# Altium schematic symbol library fc_components_sch_lib.SchLib: 40 symbols (part 1 of 2)
Pins are listed as number, name and electrical type; pins without a type are passive.

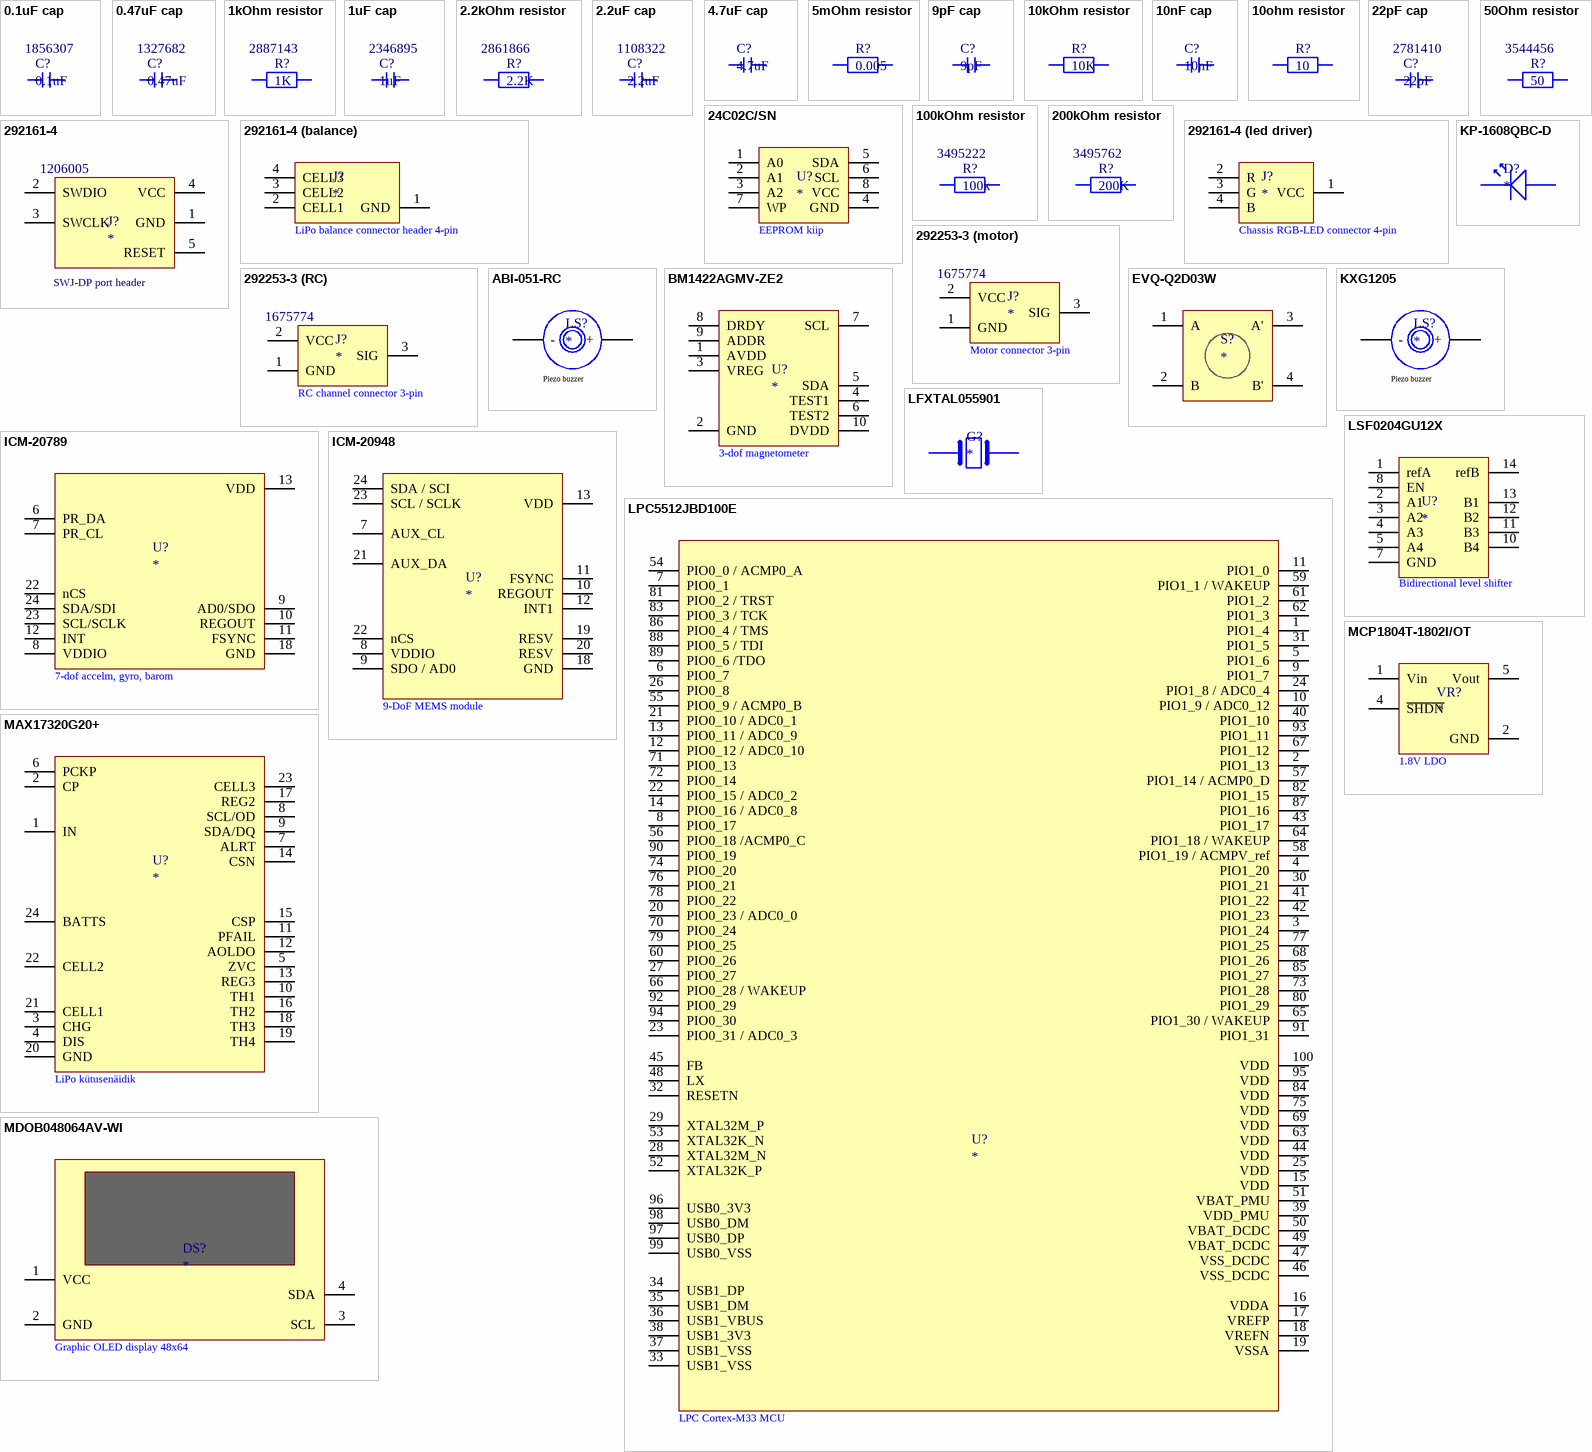
[diagram p0: symbols 0.1uF cap to MDOB048064AV-WI]

## 0.1uF cap
designator C?, comment 0.1uF  Supplier Part Number 1: 1856307
Cap, 0.1ΜF, 10V, 10%, X7R, 0603, Reel; Manufacturer: Multicomp; Manufacturer Part Number: MC0603B104K100CT; Capacitance: 100nF; Case Code (Metric): 1608; Case Code (Imperial): 0603; Min Operating Temperature: -55°C; Max Operating Temperature: 125°C; Voltage Rating: 10V; Dielectric: X7R; Packaging: Cut Tape; Tolerance: 10%; Voltage Rating (DC): 10V; REACH SVHC: No SVHC; ComponentLink1URL: http://www.farnell.com/datasheets/2117900.pdf?src-supplier=Element14; ComponentLink1Description: http://www.farnell.com/datasheets/2117900.pdf?src-supplier=Element14; ComponentLink2URL: http://www.farnell.com/datasheets/2117933.pdf?src-supplier=Farnell; ComponentLink2Description: http://www.farnell.com/datasheets/2117933.pdf?src-supplier=Farnell; ComponentLink3URL: http://www.farnell.com/datasheets/2117933.pdf?src-supplier=Element14; ComponentLink3Description: http://www.farnell.com/datasheets/2117933.pdf?src-supplier=Element14; Supplier 1: Farnell
footprint 0603 - cap (Chip Capacitor, 2-Leads, Body 1,55x0,85mm, IPC Medium Density)
pins: 1 0, 2 1

## 0.47uF cap
designator C?, comment 0.47uF  Supplier Part Number 1: 1327682
0201 0.47 uF 6.3 V ±10% Tolerance X5R Multilayer Ceramic Capacitor; Manufacturer: Murata; Manufacturer Part Number: GRM033R60J474KE90D; Capacitance: 470nF; Voltage Rating: 6.3V; Mount: Surface Mount; Case/Package: 0201; Case Code (Metric): 0603; Case Code (Imperial): 0201; Weight: 1.2E-05oz; Min Operating Temperature: -55°C; Max Operating Temperature: 85°C; Tolerance: 10%; Packaging: Tape and Reel; Dielectric: X5R; Termination: SMD/SMT; Voltage Rating (DC): 6.3V; Package Quantity: 15000; Length: 0.6mm; Width: 0.012inch; Height: 0.3mm; Thickness: 0.013inch; Depth: 0.3mm; Lead Free: Lead Free; RoHS Compliant: Yes; ComponentLink1URL: http://www.farnell.com/datasheets/2867834.pdf?src-supplier=Farnell; ComponentLink1Description: http://www.farnell.com/datasheets/2867834.pdf?src-supplier=Farnell; ComponentLink2URL: http://www.farnell.com/datasheets/2867834.pdf?src-supplier=Element14; ComponentLink2Description: http://www.farnell.com/datasheets/2867834.pdf?src-supplier=Element14; ComponentLink3URL: http://search.murata.co.jp/Ceramy/image/img/A01X/G101/ENG/GRM033R60J474KE90-01.pdf?src-supplier=Digi-Key; ComponentLink3Description: http://search.murata.co.jp/Ceramy/image/img/A01X/G101/ENG/GRM033R60J474KE90-01.pdf?src-supplier=Digi-Key; ComponentLink4URL: http://www.mouser.com/ds/2/281/c02e-2905.pdf?src-supplier=Mouser; ComponentLink4Description: http://www.mouser.com/ds/2/281/c02e-2905.pdf?src-supplier=Mouser; ComponentLink5URL: http://www.farnell.com/datasheets/2867834.pdf?src-supplier=Newark; ComponentLink5Description: http://www.farnell.com/datasheets/2867834.pdf?src-supplier=Newark; ComponentLink6URL: http://components.arrow.com/part/dataview/0323_07280126?src-supplier=Arrow+Europe; ComponentLink6Description: http://components.arrow.com/part/dataview/0323_07280126?src-supplier=Arrow+Europe; Supplier 1: Farnell
footprint 0603 - cap (Chip Capacitor, 2-Leads, Body 1,55x0,85mm, IPC Medium Density)
pins: 1 0, 2 1

## 1kOhm resistor
designator R?, comment 1K  Supplier Part Number 1: 2887143
ROHM - ESR03EZPF1001 - SMD Chip Resistor, Anti-Surge, 0603 [1608 Metric], 1 kohm, ESR Series, 150 V, Thick Film, 250 mW; Resistance: 1kR; Power Rating: 250mW; Tolerance: 1%; Temperature Coefficient: 100ppm/°C; Manufacturer: Rohm; Manufacturer Part Number: ESR03EZPF1001; Case/Package: 0603; Case Code (Metric): 1608; Case Code (Imperial): 0603; Size Code: 0603; Min Operating Temperature: -55°C; Max Operating Temperature: 155°C; Package Quantity: 1; Packaging: Tape and Reel; Resistor Type: Thick Film; Number of Terminations: 2; Max Power Dissipation: 250mW; Features: Automotive AEC-Q200; Series: ESR; Length: 0.063inch; Width: 0.031inch; Height: 0.022inch; Lead Free: Lead Free; RoHS Compliant: Yes; ComponentLink1URL: https://www.rohm.com/datasheet/ESR01MZPF/esr-e?src-supplier=Digi-Key; ComponentLink1Description: https://www.rohm.com/datasheet/ESR01MZPF/esr-e?src-supplier=Digi-Key; Supplier 1: Farnell
footprint 0603 - resistor (Chip Resistor, 2-Leads, Body 1,55x0,85mm, IPC Medium Density)
pins: 1, 2

## 1uF cap
designator C?, comment 1uF  Supplier Part Number 1: 2346895
Multilayer Ceramic Capacitors MLCC - SMD/SMT 0402 1.0uF 6.3volts *Derate Voltage/Temp; Manufacturer: Murata; Manufacturer Part Number: GRM155R70J105KA12D; Tolerance: 10%; Dielectric: X7R; Voltage Rating: 6.3V; Mount: Surface Mount; Case/Package: 0402; Case Code (Metric): 1005; Material: Ceramic; Case Code (Imperial): 0402; Weight: 0.000212oz; Min Operating Temperature: -55°C; Max Operating Temperature: 125°C; Capacitance: 1uF; Packaging: Tape and Reel; Termination: SMD/SMT; Voltage Rating (DC): 6.3V; Package Quantity: 10000; Length: 1mm; Width: 0.5mm; Height: 0.5mm; Thickness: 0.022inch; Depth: 0.5mm; Lead Free: Lead Free; RoHS Compliant: Yes; ComponentLink1URL: http://www.farnell.com/datasheets/2189111.pdf?src-supplier=Newark; ComponentLink1Description: http://www.farnell.com/datasheets/2189111.pdf?src-supplier=Newark; ComponentLink2URL: http://www.farnell.com/datasheets/2189111.pdf?src-supplier=Farnell; ComponentLink2Description: http://www.farnell.com/datasheets/2189111.pdf?src-supplier=Farnell; ComponentLink3URL: https://search.murata.co.jp/Ceramy/image/img/A01X/G101/ENG/GRM155R70J105KA12-01.pdf?src-supplier=Digi-Key; ComponentLink3Description: https://search.murata.co.jp/Ceramy/image/img/A01X/G101/ENG/GRM155R70J105KA12-01.pdf?src-supplier=Digi-Key; ComponentLink4URL: http://www.mouser.com/ds/2/281/c02e-2905.pdf?src-supplier=Mouser; ComponentLink4Description: http://www.mouser.com/ds/2/281/c02e-2905.pdf?src-supplier=Mouser; ComponentLink5URL: http://psearch.en.murata.com/capacitor/product/GRM155R70J105KA12%23.pdf?src-supplier=Avnet; ComponentLink5Description: http://psearch.en.murata.com/capacitor/product/GRM155R70J105KA12%23.pdf?src-supplier=Avnet; ComponentLink6URL: http://components.arrow.com/part/dataview/0323_06434986?src-supplier=Arrow+Europe; ComponentLink6Description: http://components.arrow.com/part/dataview/0323_06434986?src-supplier=Arrow+Europe; Supplier 1: Farnell
footprint 0603 - cap (Chip Capacitor, 2-Leads, Body 1,55x0,85mm, IPC Medium Density)
pins: 1 0, 2 1

## 2.2kOhm resistor
designator R?, comment 2.2K  Supplier Part Number 1: 2861866
TE CONNECTIVITY - CRGCQ0603J2K2 - SMD Chip Resistor, 0603 [1608 Metric], 2.2 kohm, CRGCQ Series, 75 V, Thick Film, 100 mW - SMD Chip Resistor, 0603 [1608 Metric], 2.2 kohm, CRGCQ Series, 75 V, Thick Film, 100 mW; Manufacturer: TE Connectivity; Manufacturer Part Number: CRGCQ0603J2K2; RoHS Compliant: Yes; ComponentLink1URL: https://4donline.ihs.com/images/VipMasterIC/IC/TYEL/TYEL-S-A0004929575/TYEL-S-A0004929575-1.pdf?hkey=52A5661711E402568146F3353EA87419&src-supplier=Element14; ComponentLink1Description: https://4donline.ihs.com/images/VipMasterIC/IC/TYEL/TYEL-S-A0004929575/TYEL-S-A0004929575-1.pdf?hkey=52A5661711E402568146F3353EA87419&src-supplier=Element14; ComponentLink2URL: https://4donline.ihs.com/images/VipMasterIC/IC/TYEL/TYEL-S-A0004929575/TYEL-S-A0004929575-1.pdf?hkey=52A5661711E402568146F3353EA87419&src-supplier=Newark; ComponentLink2Description: https://4donline.ihs.com/images/VipMasterIC/IC/TYEL/TYEL-S-A0004929575/TYEL-S-A0004929575-1.pdf?hkey=52A5661711E402568146F3353EA87419&src-supplier=Newark; ComponentLink3URL: https://www.te.com/commerce/DocumentDelivery/DDEController?Action=srchrtrv&amp;DocNm=1773204-3&amp;DocType=DS&amp;DocLang=English&src-supplier=Digi-Key; ComponentLink3Description: https://www.te.com/commerce/DocumentDelivery/DDEController?Action=srchrtrv&amp;DocNm=1773204-3&amp;DocType=DS&amp;DocLang=English&src-supplier=Digi-Key; Supplier 1: Farnell
footprint 0603 - resistor (Chip Resistor, 2-Leads, Body 1,55x0,85mm, IPC Medium Density)
pins: 1, 2

## 2.2uF cap
designator C?, comment 2.2uF  Supplier Part Number 1: 1108322
0402 2.2 uF 25 V ±10 % Tolerance X5R SMT Multilayer Ceramic Capacitor; Manufacturer: Murata; Manufacturer Part Number: GRT155R61E225KE13D; Voltage Rating: 25V; Tolerance: 10%; Mount: Surface Mount; Case/Package: 0402; Case Code (Metric): 1005; Case Code (Imperial): 0402; Min Operating Temperature: -55°C; Max Operating Temperature: 85°C; Packaging: Cut Tape; Capacitance: 2.2uF; Dielectric: X5R; Voltage Rating (DC): 25V; Length: 0.039inch; Width: 0.02inch; Thickness: 0.022inch; Ratings: AEC-Q200; RoHS Compliant: Yes; ComponentLink1URL: http://www.farnell.com/datasheets/2165919.pdf?src-supplier=Newark; ComponentLink1Description: http://www.farnell.com/datasheets/2165919.pdf?src-supplier=Newark; ComponentLink2URL: http://www.farnell.com/datasheets/2165919.pdf?src-supplier=Farnell; ComponentLink2Description: http://www.farnell.com/datasheets/2165919.pdf?src-supplier=Farnell; ComponentLink3URL: http://www.farnell.com/datasheets/2165919.pdf?src-supplier=Element14; ComponentLink3Description: http://www.farnell.com/datasheets/2165919.pdf?src-supplier=Element14; ComponentLink4URL: https://search.murata.co.jp/Ceramy/image/img/A01X/partnumbering_e_02.pdf?src-supplier=Digi-Key; ComponentLink4Description: https://search.murata.co.jp/Ceramy/image/img/A01X/partnumbering_e_02.pdf?src-supplier=Digi-Key; Supplier 1: Farnell
footprint 0603 - cap (Chip Capacitor, 2-Leads, Body 1,55x0,85mm, IPC Medium Density)
pins: 1 0, 2 1

## 4.7uF cap
designator C?, comment 4.7uF
0805 4.7 uF 50 V ±10% Tolerance X5R SMT Multilayer Ceramic Chip Capacitor; Manufacturer: Murata; Manufacturer Part Number: GRT21BR61H475KE13L; Voltage Rating: 50V; Supplier 1: Farnell; Stock 1: 51693; Mount: Surface Mount; Case/Package: 0805; Case Code (Metric): 2012; Case Code (Imperial): 0805; Min Operating Temperature: -55°C; Max Operating Temperature: 85°C; Packaging: Tape and Reel; Capacitance: 4.7uF; Tolerance: 10%; Dielectric: X5R; Voltage Rating (DC): 50V; Length: 0.079inch; Width: 0.049inch; Thickness: 0.057inch; Ratings: AEC-Q200; RoHS Compliant: Yes; ComponentLink1URL: http://www.farnell.com/datasheets/2165993.pdf?src-supplier=Farnell; ComponentLink1Description: http://www.farnell.com/datasheets/2165993.pdf?src-supplier=Farnell; ComponentLink2URL: http://www.farnell.com/datasheets/2165993.pdf?src-supplier=Element14; ComponentLink2Description: http://www.farnell.com/datasheets/2165993.pdf?src-supplier=Element14; ComponentLink3URL: http://search.murata.co.jp/Ceramy/image/img/A01X/G101/ENG/GRT21BR61H475KE13-01.pdf?src-supplier=Digi-Key; ComponentLink3Description: http://search.murata.co.jp/Ceramy/image/img/A01X/G101/ENG/GRT21BR61H475KE13-01.pdf?src-supplier=Digi-Key; Supplier Part Number 1: 2672194; Pricing 1: 5=0.38, 50=0.194, 250=0.174, 500=0.154, 1500=0.128, 3000=0.1, 15000=0.098 (EUR)
footprint 0805 - cap (Chip Capacitor, 2-Leads, Body 2,00x1,20mm, IPC Medium Density)
pins: 1 0, 2 1

## 5mOhm resistor
designator R?, comment 0.005
Res Thick Film 0603 0.005 Ohm 1% 0.25W(1/4W) 0ppm/C to 700ppm/C Pad SMD Automotive T/R; Manufacturer: Panasonic; Manufacturer Part Number: ERJ-3LWFR005V; Resistance: 5mR; Temperature Coefficient: 700ppm/°C; Max Power Dissipation: 250mW; Supplier 1: Farnell; Stock 1: 3850; Pricing 1: 150=0.121, 500=0.0804, 1000=0.0759, 2500=0.0666, 5000=0.0643, 25000=0.0618 (EUR); Case/Package: 0603; Case Code (Metric): 1608; Case Code (Imperial): 0603; Min Operating Temperature: -55°C; Max Operating Temperature: 125°C; Packaging: Tape and Reel; Resistor Type: Thick Film; Number of Terminations: 2; Tolerance: 1%; Features: Automotive AEC-Q200; Length: 0.063inch; Width: 0.031inch; Height: 0.026inch; RoHS Compliant: Yes; ComponentLink1URL: http://www.farnell.com/datasheets/2631545.pdf?src-supplier=Farnell; ComponentLink1Description: http://www.farnell.com/datasheets/2631545.pdf?src-supplier=Farnell; ComponentLink2URL: http://www.farnell.com/datasheets/2631545.pdf?src-supplier=Newark; ComponentLink2Description: http://www.farnell.com/datasheets/2631545.pdf?src-supplier=Newark; ComponentLink3URL: http://www.mouser.com/ds/2/315/AOA0000C295-1109214.pdf?src-supplier=Mouser; ComponentLink3Description: http://www.mouser.com/ds/2/315/AOA0000C295-1109214.pdf?src-supplier=Mouser; ComponentLink4URL: https://industrial.panasonic.com/cdbs/www-data/pdf/RDN0000/AOA0000C313.pdf?src-supplier=Digi-Key; ComponentLink4Description: https://industrial.panasonic.com/cdbs/www-data/pdf/RDN0000/AOA0000C313.pdf?src-supplier=Digi-Key; Supplier Part Number 1: 2797524RL
footprint 0603 - resistor (Chip Resistor, 2-Leads, Body 1,55x0,85mm, IPC Medium Density)
pins: 1, 2

## 9pF cap
designator C?, comment 9pF
Cap Ceramic 9pF 50V C0G ±0.5pF SMD 0603 125°C T/R; Manufacturer: Multicomp; Manufacturer Part Number: MC0603N9R0D500CT; Supplier 1: Farnell; Stock 1: 0; Pricing 1: 4000=0.0108 (EUR); Case/Package: 0603; Case Code (Metric): 1608; Case Code (Imperial): 0603; Min Operating Temperature: -55°C; Max Operating Temperature: 125°C; Capacitance: 9pF; Voltage Rating: 50V; Packaging: Cut Tape; Dielectric: C0G; Voltage Rating (DC): 50V; REACH SVHC: Unknown; RoHS Compliant: Yes; ComponentLink1URL: http://www.farnell.com/datasheets/1901289.pdf?src-supplier=Element14; ComponentLink1Description: http://www.farnell.com/datasheets/1901289.pdf?src-supplier=Element14; Supplier Part Number 1: 2665944
footprint 0603 - cap (Chip Capacitor, 2-Leads, Body 1,55x0,85mm, IPC Medium Density)
pins: 0, 1

## 10kOhm resistor
designator R?, comment 10K
Res General Purpose Thick Film 0603 10k Ohm 5% 1/10W ±100ppm/°C Molded T/R; Manufacturer: Multicomp; Manufacturer Part Number: MCWR06X103 JTL; Supplier 1: Farnell; Stock 1: 0; Pricing 1: 5000=0.0018 (EUR); ComponentLink1URL: http://www.farnell.com/datasheets/2189593.pdf?src-supplier=Farnell; ComponentLink1Description: http://www.farnell.com/datasheets/2189593.pdf?src-supplier=Farnell; Supplier Part Number 1: 2689413
footprint 0603 - resistor (Chip Resistor, 2-Leads, Body 1,55x0,85mm, IPC Medium Density)
pins: 1, 2

## 10nF cap
designator C?, comment 10nF
Cap Ceramic 10000pF 50V X7R ±5% SMD 0402 125°C T/R; Manufacturer: Multicomp; Manufacturer Part Number: MC0402B103J500CT; Supplier 1: Farnell; Stock 1: 11966; Pricing 1: 150=0.0353, 500=0.0235, 2500=0.0141 (EUR); Case Code (Metric): 1005; Case Code (Imperial): 0402; Min Operating Temperature: -55°C; Max Operating Temperature: 125°C; Capacitance: 10nF; Voltage Rating: 50V; Dielectric: X7R; Packaging: Cut Tape; Tolerance: 5%; Voltage Rating (DC): 50V; REACH SVHC: No SVHC; ComponentLink1URL: http://www.farnell.com/datasheets/2117900.pdf?src-supplier=Element14; ComponentLink1Description: http://www.farnell.com/datasheets/2117900.pdf?src-supplier=Element14; ComponentLink2URL: http://www.farnell.com/datasheets/2117933.pdf?src-supplier=Element14; ComponentLink2Description: http://www.farnell.com/datasheets/2117933.pdf?src-supplier=Element14; Supplier Part Number 1: 2627338RL
footprint 0402 - cap (Chip Capacitor, 2-Leads, Body 1,00x0,50mm, IPC Medium Density)
pins: 1 0, 2 1

## 10ohm resistor
designator R?, comment 10
Res High Power Thick Film 0603 10 Ohm 1% 1/8W ±100ppm/°C Ceramic Paper T/R; Manufacturer: Multicomp; Manufacturer Part Number: MCWF06P10R0FTL; Supplier 1: Farnell; Stock 1: 0; Pricing 1: 5000=0.0039, 25000=0.003, 50000=0.0026 (EUR); ComponentLink1URL: http://www.farnell.com/datasheets/2189453.pdf?src-supplier=Farnell; ComponentLink1Description: http://www.farnell.com/datasheets/2189453.pdf?src-supplier=Farnell; Supplier Part Number 1: 2688761
footprint 0603 - resistor (Chip Resistor, 2-Leads, Body 1,55x0,85mm, IPC Medium Density)
pins: 1, 2

## 22pF cap
designator C?, comment 22pF  Supplier Part Number 1: 2781410
0402 22 pF 50 V ±5 % Tolerance C0G SMT Multilayer Ceramic Capacitor; Manufacturer: Murata; Manufacturer Part Number: GCM1555C1H220JA16D; Tolerance: 5%; Voltage Rating: 50V; Mount: Surface Mount; Case/Package: 0402; Case Code (Metric): 1005; Case Code (Imperial): 0402; Weight: 0.000212oz; Min Operating Temperature: -55°C; Max Operating Temperature: 125°C; Package Quantity: 1; Packaging: Tape and Reel; Capacitance: 22pF; Dielectric: C0G; Termination: SMD/SMT; Voltage Rating (DC): 50V; Length: 1mm; Width: 0.5mm; Height: 0.5mm; Thickness: 0.022inch; Depth: 0.5mm; Ratings: AEC-Q200; Lead Free: Lead Free; RoHS Compliant: Yes; ComponentLink1URL: http://www.farnell.com/datasheets/2189077.pdf?src-supplier=Farnell; ComponentLink1Description: http://www.farnell.com/datasheets/2189077.pdf?src-supplier=Farnell; ComponentLink2URL: http://www.farnell.com/datasheets/2189077.pdf?src-supplier=Element14; ComponentLink2Description: http://www.farnell.com/datasheets/2189077.pdf?src-supplier=Element14; ComponentLink3URL: http://search.murata.co.jp/Ceramy/image/img/A01X/partnumbering_e_02.pdf?src-supplier=Digi-Key; ComponentLink3Description: http://search.murata.co.jp/Ceramy/image/img/A01X/partnumbering_e_02.pdf?src-supplier=Digi-Key; ComponentLink4URL: http://www.mouser.com/ds/2/281/c03e-806517.pdf?src-supplier=Mouser; ComponentLink4Description: http://www.mouser.com/ds/2/281/c03e-806517.pdf?src-supplier=Mouser; ComponentLink5URL: http://psearch.en.murata.com/capacitor/product/GCM1555C1H220JA16%23.pdf?src-supplier=Avnet; ComponentLink5Description: http://psearch.en.murata.com/capacitor/product/GCM1555C1H220JA16%23.pdf?src-supplier=Avnet; ComponentLink6URL: http://components.arrow.com/part/dataview/0323_07199610?src-supplier=Arrow+Europe; ComponentLink6Description: http://components.arrow.com/part/dataview/0323_07199610?src-supplier=Arrow+Europe; Supplier 1: Farnell
footprint 0603 - cap (Chip Capacitor, 2-Leads, Body 1,55x0,85mm, IPC Medium Density)
pins: 1 0, 2 1

## 24C02C/SN
designator U?
MICROCHIP - 24C02C/SN - SERIAL EEPROM, 2KBIT, 400KHZ, SOIC-8; Access Time: 900ns; Density: 2Kb; Interface: I2C,Serial,2-Wire; Operating Supply Voltage: 5V; Max Supply Voltage: 5.5V; Min Supply Voltage: 4.5V; Nominal Supply Current: 3mA; Organization: 256X8; Write Protection: YES; Write Cycle Time-Max (tWC): 1.5ms; Number of Words: 256; Supplier 1: Farnell; Manufacturer: Microchip; Manufacturer Part Number: 24C02C/SN; Stock 1: 1100; Pricing 1: 1=0.423, 25=0.415, 100=0.406 (EUR); Mount: Surface Mount; Case/Package: SOIC; Number of Pins: 8; Min Operating Temperature: 0°C; Max Operating Temperature: 70°C; Max Frequency: 400kHz; Frequency: 400kHz; Packaging: Rail/Tube; Package Quantity: 100; Memory Type: EEPROM; Memory Size: 2Kb; Access Time-Max: 900ns; Supply Current: 3mA; Programming Voltage: 5.5V; Supply Voltage-Nom: 5.5V; Length: 4.9mm; Width: 3.9mm; Height: 1.5mm; Radiation Hardening: No; Lead Free: Lead Free; RoHS Compliant: Yes; REACH SVHC: No SVHC; ComponentLink1URL: http://www.farnell.com/datasheets/1688094.pdf?src-supplier=Element14; ComponentLink1Description: http://www.farnell.com/datasheets/1688094.pdf?src-supplier=Element14; ComponentLink2URL: http://ww1.microchip.com/downloads/en/DeviceDoc/21202d.pdf?src-supplier=Mouser; ComponentLink2Description: http://ww1.microchip.com/downloads/en/DeviceDoc/21202d.pdf?src-supplier=Mouser; ComponentLink3URL: https://www.alliedelec.com/m/d/de95da595ed0857ba5ed453637810f1b.pdf?src-supplier=Allied+Electronics; ComponentLink3Description: https://www.alliedelec.com/m/d/de95da595ed0857ba5ed453637810f1b.pdf?src-supplier=Allied+Electronics; Supplier Part Number 1: 1607552
footprint (EEPROM)SOIC127P600X175-8N (SOIC, 8-Leads, Body 4,90x3,90mm, Pitch 1,27mm, IPC Medium Density)
pins: 1 A0, 2 A1, 3 A2, 4 GND, 5 SDA, 6 SCL, 7 WP, 8 VCC
text: EEPROM kiip

## 50Ohm resistor
designator R?, comment 50  Supplier Part Number 1: 3544456
Res, 50R, 1%, 0.063W, 0402 Rohs Compliant: Yes; Manufacturer: KOA Speer; Manufacturer Part Number: RN73R1ETTP50R0F50; ComponentLink1URL: https://datasheet.octopart.com/RN73R1ETTP50R0F50-KOA-Speer-datasheet-149653819.pdf?src-supplier=Farnell; ComponentLink1Description: https://datasheet.octopart.com/RN73R1ETTP50R0F50-KOA-Speer-datasheet-149653819.pdf?src-supplier=Farnell; Supplier 1: Farnell
footprint 0402 - resistor (Chip Resistor, 2-Leads, Body 1,00x0,50mm, IPC Medium Density)
pins: 1, 2

## 100kOhm resistor
designator R?, comment 100k  Supplier Part Number 1: 3495222
Res General Purpose Thick Film 0402 100k Ohm 1% 1/16W ±100ppm/°C Molded Paper T/R; Manufacturer: TE Connectivity; Manufacturer Part Number: CRGCQ0402F100K; Resistance: 100kR; Max Power Dissipation: 63mW; Case/Package: 0402; Case Code (Imperial): 0402; Case Code (Metric): 1005; Min Operating Temperature: -55°C; Max Operating Temperature: 155°C; Resistor Type: Thick Film; Features: Moisture Resistant,Automotive AEC-Q200; Packaging: Tape and Reel; Tolerance: 1%; Temperature Coefficient: 100ppm/°C; Number of Terminations: 2; RoHS Compliant: Yes; ComponentLink1URL: https://4donline.ihs.com/images/VipMasterIC/IC/TYEL/TYEL-S-A0004929575/TYEL-S-A0004929575-1.pdf?hkey=52A5661711E402568146F3353EA87419&src-supplier=Farnell; ComponentLink1Description: https://4donline.ihs.com/images/VipMasterIC/IC/TYEL/TYEL-S-A0004929575/TYEL-S-A0004929575-1.pdf?hkey=52A5661711E402568146F3353EA87419&src-supplier=Farnell; ComponentLink2URL: https://4donline.ihs.com/images/VipMasterIC/IC/TYEL/TYEL-S-A0004929575/TYEL-S-A0004929575-1.pdf?hkey=52A5661711E402568146F3353EA87419&src-supplier=Element14; ComponentLink2Description: https://4donline.ihs.com/images/VipMasterIC/IC/TYEL/TYEL-S-A0004929575/TYEL-S-A0004929575-1.pdf?hkey=52A5661711E402568146F3353EA87419&src-supplier=Element14; ComponentLink3URL: https://4donline.ihs.com/images/VipMasterIC/IC/TYEL/TYEL-S-A0004929575/TYEL-S-A0004929575-1.pdf?hkey=52A5661711E402568146F3353EA87419&src-supplier=Newark; ComponentLink3Description: https://4donline.ihs.com/images/VipMasterIC/IC/TYEL/TYEL-S-A0004929575/TYEL-S-A0004929575-1.pdf?hkey=52A5661711E402568146F3353EA87419&src-supplier=Newark; ComponentLink4URL: https://www.te.com/commerce/DocumentDelivery/DDEController?Action=srchrtrv&amp;DocNm=1773204-3&amp;DocType=DS&amp;DocLang=English&src-supplier=Digi-Key; ComponentLink4Description: https://www.te.com/commerce/DocumentDelivery/DDEController?Action=srchrtrv&amp;DocNm=1773204-3&amp;DocType=DS&amp;DocLang=English&src-supplier=Digi-Key; Supplier 1: Farnell
footprint 0603 - resistor (Chip Resistor, 2-Leads, Body 1,55x0,85mm, IPC Medium Density)
pins: 1, 2

## 200kOhm resistor
designator R?, comment 200K  Supplier Part Number 1: 3495762
Res Thin Film 0603 200K Ohm 0.1% 1/10W ±25ppm/°C Molded SMD SMD Punched Carrier T/R; Manufacturer: Panasonic; Manufacturer Part Number: ERA-3AEB204V; Voltage Rating (DC): 75V; Resistance: 200kR; Power Rating: 100mW; Mount: Surface Mount; Case/Package: 0603; Number of Pins: 2; Contact Plating: Tin; Case Code (Metric): 1608; Case Code (Imperial): 0603; Size Code: 0603; Min Operating Temperature: -55°C; Max Operating Temperature: 155°C; Package Quantity: 5000; Packaging: Tape and Reel; Series: ERA-3A; Tolerance: 0.1%; Voltage Rating: 75V; Resistor Type: Thin Film; Termination: SMD/SMT; Temperature Coefficient: 25ppm/°C; Max Power Dissipation: 100mW; Resistance Tolerance: 0.1%; Technology: THIN FILM; Number of Terminations: 2; Features: Automotive AEC-Q200; Construction: Rectangular; Length: 1.6mm; Width: 0.8mm; Height: 0.45mm; Depth: 0.8mm; Radiation Hardening: No; REACH SVHC: No SVHC; Lead Free: Lead Free; RoHS Compliant: Yes; Military Standard: Not; ComponentLink1URL: https://www.distrelec.biz/Web/Downloads/_t/ds/ERA_eng_tds.pdf?mime=application%2Fpdf&src-supplier=Distrelec; ComponentLink1Description: https://www.distrelec.biz/Web/Downloads/_t/ds/ERA_eng_tds.pdf?mime=application%2Fpdf&src-supplier=Distrelec; ComponentLink2URL: http://www.farnell.com/datasheets/485442.pdf?src-supplier=Element14; ComponentLink2Description: http://www.farnell.com/datasheets/485442.pdf?src-supplier=Element14; ComponentLink3URL: http://www.farnell.com/datasheets/2059650.pdf?src-supplier=Farnell; ComponentLink3Description: http://www.farnell.com/datasheets/2059650.pdf?src-supplier=Farnell; ComponentLink4URL: http://www.farnell.com/datasheets/485442.pdf?src-supplier=Farnell; ComponentLink4Description: http://www.farnell.com/datasheets/485442.pdf?src-supplier=Farnell; ComponentLink5URL: http://www.farnell.com/datasheets/39837.pdf?src-supplier=Element14; ComponentLink5Description: http://www.farnell.com/datasheets/39837.pdf?src-supplier=Element14; ComponentLink6URL: https://www.alliedelec.com/m/d/b6b0537e86f421aa7f5975bb1d8f429a.pdf?src-supplier=Allied+Electronics; ComponentLink6Description: https://www.alliedelec.com/m/d/b6b0537e86f421aa7f5975bb1d8f429a.pdf?src-supplier=Allied+Electronics; ComponentLink7URL: http://industrial.panasonic.com/www-data/pdf/AOA0000/AOA0000CE26.pdf?src-supplier=Avnet; ComponentLink7Description: http://industrial.panasonic.com/www-data/pdf/AOA0000/AOA0000CE26.pdf?src-supplier=Avnet; ComponentLink8URL: http://www.produktinfo.conrad.com/datenblaetter/450000-474999/451764-da-01-en-WIDERSTAND_0603_ERA.pdf?src-supplier=Conrad; ComponentLink8Description: http://www.produktinfo.conrad.com/datenblaetter/450000-474999/451764-da-01-en-WIDERSTAND_0603_ERA.pdf?src-supplier=Conrad; Supplier 1: Farnell
footprint 0603 - resistor (Chip Resistor, 2-Leads, Body 1,55x0,85mm, IPC Medium Density)
pins: 1, 2

## 292161-4
designator J?  Supplier Part Number 1: 1206005
CONN HEADER 4POS VERT 2MM T/H; Manufacturer: TE Connectivity; Manufacturer Part Number: 292161-4; Shape: Rectangular; Body Material: Nylon; Body Plating: Tin; Number of Positions: 4; Connector Type: Header,Pin; Mating Retention: No (Without); PCB Mount Retention: With; PCB Mounting Orientation: Vertical; Contact Resistance: 20mR; Max Voltage Rating (AC): 125V; Wire/Cable Type: Discrete; Connector System: Wire-to-Board; Contact Retention: Yes (With); Contact Current Rating: 4A; Contact Style: Straight; Gender: Male; Wire/Cable Gauge: 22AWG; Plating Thickness: 2um; Tail Length: 3.2mm; PCB Thickness: 0.8mm; Approvals: UL; Mount: Through Hole; Contact Plating: Tin; Contact Material: Brass; Housing Color: Natural; Housing Material: Nylon; Contact Shape: Round; Color: Natural; Material: Nylon; Min Operating Temperature: -40°C; Max Operating Temperature: 105°C; Number of Rows: 1; Packaging: Bag; Termination: Solder; Number of Contacts: 4; Package Quantity: 1000; Orientation: Straight; PCB Mount Alignment: No (Without); Sealable: No (Without); Series: AMP CT; Backwall/Post Interruptions: No (Without); Mating Alignment: No (Without); Strain Relief: No (Without); Voltage Rating: 125V; Contact Type: Male Pin; Current Rating: 4A; Contact Gender: Male; Voltage Rating (DC): 125V; Max Voltage Rating (DC): 125V; Voltage Rating (AC): 125V; Length: 9.8mm; Width: 3.6mm; Height: 0.267inch; Pitch: 2mm; Contact Mating Length: 0.177inch; Depth: 3.6mm; Lead Pitch: 2mm; Radiation Hardening: No; Flammability Rating: UL94 V-0; RoHS Compliant: Yes; ELV: Compliant; REACH SVHC: No SVHC; Lead Free: Lead Free; ComponentLink1URL: http://www.farnell.com/datasheets/1631402.pdf?src-supplier=Element14; ComponentLink1Description: http://www.farnell.com/datasheets/1631402.pdf?src-supplier=Element14; ComponentLink2URL: https://www.distrelec.biz/Web/Downloads/_t/ds/292161_x_eng_tds.pdf?mime=application%2Fpdf&src-supplier=Distrelec; ComponentLink2Description: https://www.distrelec.biz/Web/Downloads/_t/ds/292161_x_eng_tds.pdf?mime=application%2Fpdf&src-supplier=Distrelec; ComponentLink3URL: http://www.jameco.com/Jameco/Products/ProdDS/1931034.pdf?src-supplier=Jameco; ComponentLink3Description: http://www.jameco.com/Jameco/Products/ProdDS/1931034.pdf?src-supplier=Jameco; ComponentLink4URL: http://www.te.com/commerce/DocumentDelivery/DDEController?Action=showdoc&DocId=Data+Sheet%7F1-1773455-8_CT_CONNECTOR_SERIES_QRG%7F0909%7Fpdf%7FEnglish%7FENG_DS_1-1773455-8_CT_CONNECTOR_SERIES_QRG_0909.pdf&src-supplier=Avnet; ComponentLink4Description: http://www.te.com/commerce/DocumentDelivery/DDEController?Action=showdoc&DocId=Data+Sheet%7F1-1773455-8_CT_CONNECTOR_SERIES_QRG%7F0909%7Fpdf%7FEnglish%7FENG_DS_1-1773455-8_CT_CONNECTOR_SERIES_QRG_0909.pdf&src-supplier=Avnet; ComponentLink5URL: http://www.te.com/commerce/DocumentDelivery/DDEController?Action=showdoc&DocId=Customer+Drawing%7F292161%7FP%7Fpdf%7FEnglish%7FENG_CD_292161_P.pdf%7F292161-4&src-supplier=Future+Electronics; ComponentLink5Description: http://www.te.com/commerce/DocumentDelivery/DDEController?Action=showdoc&DocId=Customer+Drawing%7F292161%7FP%7Fpdf%7FEnglish%7FENG_CD_292161_P.pdf%7F292161-4&src-supplier=Future+Electronics; ComponentLink6URL: http://www.te.com/commerce/DocumentDelivery/DDEController?Action=showdoc&DocId=Data+Sheet%7F1-1773455-8_CT_CONNECTOR_SERIES_QRG%7F0909%7Fpdf%7FEnglish%7FENG_DS_1-1773455-8_CT_CONNECTOR_SERIES_QRG_0909.pdf&src-supplier=Avnet+Europe; ComponentLink6Description: http://www.te.com/commerce/DocumentDelivery/DDEController?Action=showdoc&DocId=Data+Sheet%7F1-1773455-8_CT_CONNECTOR_SERIES_QRG%7F0909%7Fpdf%7FEnglish%7FENG_DS_1-1773455-8_CT_CONNECTOR_SERIES_QRG_0909.pdf&src-supplier=Avnet+Europe; ComponentLink7URL: http://www.te.com/commerce/DocumentDelivery/DDEController?Action=srchrtrv&DocNm=292161&DocType=Customer+Drawing&DocLang=English&src-supplier=Digi-Key; ComponentLink7Description: http://www.te.com/commerce/DocumentDelivery/DDEController?Action=srchrtrv&DocNm=292161&DocType=Customer+Drawing&DocLang=English&src-supplier=Digi-Key; Supplier 1: Farnell
footprint 6-PIN CONNECTOR
pins: 1 GND, 2 SWDIO, 3 SWCLK, 4 VCC, 5 RESET
text: SWJ-DP port header

## 292161-4 (balance)
designator J?
CONN HEADER 4POS VERT 2MM T/H; Manufacturer: TE Connectivity; Manufacturer Part Number: 292161-4; Shape: Rectangular; Body Material: Nylon; Body Plating: Tin; Number of Positions: 4; Connector Type: Header,Pin; Mating Retention: No (Without); PCB Mount Retention: With; PCB Mounting Orientation: Vertical; Contact Resistance: 20mR; Max Voltage Rating (AC): 125V; Wire/Cable Type: Discrete; Connector System: Wire-to-Board; Contact Retention: Yes (With); Contact Current Rating: 4A; Contact Style: Straight; Gender: Male; Wire/Cable Gauge: 22AWG; Plating Thickness: 2um; Tail Length: 3.2mm; PCB Thickness: 0.8mm; Approvals: UL; Supplier 1: Farnell; Stock 1: 3420; Pricing 1: 10=0.346, 100=0.282, 500=0.256, 1000=0.211, 2500=0.192, 5000=0.185 (EUR); Mount: Through Hole; Contact Plating: Tin; Contact Material: Brass; Housing Color: Natural; Housing Material: Nylon; Contact Shape: Round; Color: Natural; Material: Nylon; Min Operating Temperature: -40°C; Max Operating Temperature: 105°C; Number of Rows: 1; Packaging: Bag; Termination: Solder; Number of Contacts: 4; Package Quantity: 1000; Orientation: Straight; PCB Mount Alignment: No (Without); Sealable: No (Without); Series: AMP CT; Backwall/Post Interruptions: No (Without); Mating Alignment: No (Without); Strain Relief: No (Without); Voltage Rating: 125V; Contact Type: Male Pin; Current Rating: 4A; Contact Gender: Male; Voltage Rating (DC): 125V; Max Voltage Rating (DC): 125V; Voltage Rating (AC): 125V; Length: 9.8mm; Width: 3.6mm; Height: 0.267inch; Pitch: 2mm; Contact Mating Length: 0.177inch; Depth: 3.6mm; Lead Pitch: 2mm; Radiation Hardening: No; Flammability Rating: UL94 V-0; RoHS Compliant: Yes; ELV: Compliant; REACH SVHC: No SVHC; Lead Free: Lead Free; ComponentLink1URL: http://www.farnell.com/datasheets/1631402.pdf?src-supplier=Element14; ComponentLink1Description: http://www.farnell.com/datasheets/1631402.pdf?src-supplier=Element14; ComponentLink2URL: https://www.distrelec.biz/Web/Downloads/_t/ds/292161_x_eng_tds.pdf?mime=application%2Fpdf&src-supplier=Distrelec; ComponentLink2Description: https://www.distrelec.biz/Web/Downloads/_t/ds/292161_x_eng_tds.pdf?mime=application%2Fpdf&src-supplier=Distrelec; ComponentLink3URL: http://www.jameco.com/Jameco/Products/ProdDS/1931034.pdf?src-supplier=Jameco; ComponentLink3Description: http://www.jameco.com/Jameco/Products/ProdDS/1931034.pdf?src-supplier=Jameco; ComponentLink4URL: http://www.te.com/commerce/DocumentDelivery/DDEController?Action=showdoc&DocId=Data+Sheet%7F1-1773455-8_CT_CONNECTOR_SERIES_QRG%7F0909%7Fpdf%7FEnglish%7FENG_DS_1-1773455-8_CT_CONNECTOR_SERIES_QRG_0909.pdf&src-supplier=Avnet; ComponentLink4Description: http://www.te.com/commerce/DocumentDelivery/DDEController?Action=showdoc&DocId=Data+Sheet%7F1-1773455-8_CT_CONNECTOR_SERIES_QRG%7F0909%7Fpdf%7FEnglish%7FENG_DS_1-1773455-8_CT_CONNECTOR_SERIES_QRG_0909.pdf&src-supplier=Avnet; ComponentLink5URL: http://www.te.com/commerce/DocumentDelivery/DDEController?Action=showdoc&DocId=Customer+Drawing%7F292161%7FP%7Fpdf%7FEnglish%7FENG_CD_292161_P.pdf%7F292161-4&src-supplier=Future+Electronics; ComponentLink5Description: http://www.te.com/commerce/DocumentDelivery/DDEController?Action=showdoc&DocId=Customer+Drawing%7F292161%7FP%7Fpdf%7FEnglish%7FENG_CD_292161_P.pdf%7F292161-4&src-supplier=Future+Electronics; ComponentLink6URL: http://www.te.com/commerce/DocumentDelivery/DDEController?Action=showdoc&DocId=Data+Sheet%7F1-1773455-8_CT_CONNECTOR_SERIES_QRG%7F0909%7Fpdf%7FEnglish%7FENG_DS_1-1773455-8_CT_CONNECTOR_SERIES_QRG_0909.pdf&src-supplier=Avnet+Europe; ComponentLink6Description: http://www.te.com/commerce/DocumentDelivery/DDEController?Action=showdoc&DocId=Data+Sheet%7F1-1773455-8_CT_CONNECTOR_SERIES_QRG%7F0909%7Fpdf%7FEnglish%7FENG_DS_1-1773455-8_CT_CONNECTOR_SERIES_QRG_0909.pdf&src-supplier=Avnet+Europe; ComponentLink7URL: http://www.te.com/commerce/DocumentDelivery/DDEController?Action=srchrtrv&DocNm=292161&DocType=Customer+Drawing&DocLang=English&src-supplier=Digi-Key; ComponentLink7Description: http://www.te.com/commerce/DocumentDelivery/DDEController?Action=srchrtrv&DocNm=292161&DocType=Customer+Drawing&DocLang=English&src-supplier=Digi-Key; Supplier Part Number 1: 1282952
footprint 4-pin connector
pins: 1 GND, 2 CELL1, 3 CELL2, 4 CELL3
text: LiPo balance connector header 4-pin

## 292161-4 (led driver)
designator J?
CONN HEADER 4POS VERT 2MM T/H; Manufacturer: TE Connectivity; Manufacturer Part Number: 292161-4; Shape: Rectangular; Body Material: Nylon; Body Plating: Tin; Number of Positions: 4; Connector Type: Header,Pin; Mating Retention: No (Without); PCB Mount Retention: With; PCB Mounting Orientation: Vertical; Contact Resistance: 20mR; Max Voltage Rating (AC): 125V; Wire/Cable Type: Discrete; Connector System: Wire-to-Board; Contact Retention: Yes (With); Contact Current Rating: 4A; Contact Style: Straight; Gender: Male; Wire/Cable Gauge: 22AWG; Plating Thickness: 2um; Tail Length: 3.2mm; PCB Thickness: 0.8mm; Approvals: UL; Supplier 1: Farnell; Stock 1: 3420; Pricing 1: 10=0.346, 100=0.282, 500=0.256, 1000=0.211, 2500=0.192, 5000=0.185 (EUR); Mount: Through Hole; Contact Plating: Tin; Contact Material: Brass; Housing Color: Natural; Housing Material: Nylon; Contact Shape: Round; Color: Natural; Material: Nylon; Min Operating Temperature: -40°C; Max Operating Temperature: 105°C; Number of Rows: 1; Packaging: Bag; Termination: Solder; Number of Contacts: 4; Package Quantity: 1000; Orientation: Straight; PCB Mount Alignment: No (Without); Sealable: No (Without); Series: AMP CT; Backwall/Post Interruptions: No (Without); Mating Alignment: No (Without); Strain Relief: No (Without); Voltage Rating: 125V; Contact Type: Male Pin; Current Rating: 4A; Contact Gender: Male; Voltage Rating (DC): 125V; Max Voltage Rating (DC): 125V; Voltage Rating (AC): 125V; Length: 9.8mm; Width: 3.6mm; Height: 0.267inch; Pitch: 2mm; Contact Mating Length: 0.177inch; Depth: 3.6mm; Lead Pitch: 2mm; Radiation Hardening: No; Flammability Rating: UL94 V-0; RoHS Compliant: Yes; ELV: Compliant; REACH SVHC: No SVHC; Lead Free: Lead Free; ComponentLink1URL: http://www.farnell.com/datasheets/1631402.pdf?src-supplier=Element14; ComponentLink1Description: http://www.farnell.com/datasheets/1631402.pdf?src-supplier=Element14; ComponentLink2URL: https://www.distrelec.biz/Web/Downloads/_t/ds/292161_x_eng_tds.pdf?mime=application%2Fpdf&src-supplier=Distrelec; ComponentLink2Description: https://www.distrelec.biz/Web/Downloads/_t/ds/292161_x_eng_tds.pdf?mime=application%2Fpdf&src-supplier=Distrelec; ComponentLink3URL: http://www.jameco.com/Jameco/Products/ProdDS/1931034.pdf?src-supplier=Jameco; ComponentLink3Description: http://www.jameco.com/Jameco/Products/ProdDS/1931034.pdf?src-supplier=Jameco; ComponentLink4URL: http://www.te.com/commerce/DocumentDelivery/DDEController?Action=showdoc&DocId=Data+Sheet%7F1-1773455-8_CT_CONNECTOR_SERIES_QRG%7F0909%7Fpdf%7FEnglish%7FENG_DS_1-1773455-8_CT_CONNECTOR_SERIES_QRG_0909.pdf&src-supplier=Avnet; ComponentLink4Description: http://www.te.com/commerce/DocumentDelivery/DDEController?Action=showdoc&DocId=Data+Sheet%7F1-1773455-8_CT_CONNECTOR_SERIES_QRG%7F0909%7Fpdf%7FEnglish%7FENG_DS_1-1773455-8_CT_CONNECTOR_SERIES_QRG_0909.pdf&src-supplier=Avnet; ComponentLink5URL: http://www.te.com/commerce/DocumentDelivery/DDEController?Action=showdoc&DocId=Customer+Drawing%7F292161%7FP%7Fpdf%7FEnglish%7FENG_CD_292161_P.pdf%7F292161-4&src-supplier=Future+Electronics; ComponentLink5Description: http://www.te.com/commerce/DocumentDelivery/DDEController?Action=showdoc&DocId=Customer+Drawing%7F292161%7FP%7Fpdf%7FEnglish%7FENG_CD_292161_P.pdf%7F292161-4&src-supplier=Future+Electronics; ComponentLink6URL: http://www.te.com/commerce/DocumentDelivery/DDEController?Action=showdoc&DocId=Data+Sheet%7F1-1773455-8_CT_CONNECTOR_SERIES_QRG%7F0909%7Fpdf%7FEnglish%7FENG_DS_1-1773455-8_CT_CONNECTOR_SERIES_QRG_0909.pdf&src-supplier=Avnet+Europe; ComponentLink6Description: http://www.te.com/commerce/DocumentDelivery/DDEController?Action=showdoc&DocId=Data+Sheet%7F1-1773455-8_CT_CONNECTOR_SERIES_QRG%7F0909%7Fpdf%7FEnglish%7FENG_DS_1-1773455-8_CT_CONNECTOR_SERIES_QRG_0909.pdf&src-supplier=Avnet+Europe; ComponentLink7URL: http://www.te.com/commerce/DocumentDelivery/DDEController?Action=srchrtrv&DocNm=292161&DocType=Customer+Drawing&DocLang=English&src-supplier=Digi-Key; ComponentLink7Description: http://www.te.com/commerce/DocumentDelivery/DDEController?Action=srchrtrv&DocNm=292161&DocType=Customer+Drawing&DocLang=English&src-supplier=Digi-Key; Supplier Part Number 1: 1282952
footprint 4-pin connector
pins: 1 VCC, 2 R, 3 G, 4 B
text: Chassis RGB-LED connector 4-pin

## 292253-3 (motor)
designator J?  Supplier Part Number 1: 1675774
Headers & Wire Housings 3P R/A HDR ASSY; Manufacturer: TE Connectivity; Manufacturer Part Number: 292253-3; Shape: Rectangular; Number of Positions: 3; Connector Type: Header,Pin; Wire/Cable Type: Discrete; Backwall/Post Interruptions: No (Without); Connector System: Wire-to-Board; Mating Alignment: Yes (With); PCB Mount Retention: With; PCB Mounting Orientation: Right Angle; Contact Current Rating: 4A; Contact Resistance: 20mR; Max Voltage Rating (AC): 125V; Current Rating: 2A; Gender: Male; Pitch: 2mm; PCB Thickness: 0.8mm; Tail Length: 3.2mm; Wire/Cable Gauge: 22AWG; Approvals: UL; Mount: Through Hole; Contact Material: Brass; Contact Plating: Tin; Housing Color: Natural; Housing Material: Nylon; Color: Natural; Contact Shape: Round; Material: Nylon; Min Operating Temperature: -40°C; Max Operating Temperature: 105°C; Number of Rows: 1; Termination: Solder; Packaging: Bag; Package Quantity: 500; Number of Contacts: 3; Contact Retention: No (Without); Mating Retention: No (Without); PCB Mount Alignment: No (Without); Sealable: No (Without); Orientation: Right Angle; Series: AMP CT; Contact Type: Male Pin; Voltage Rating: 125V; Max Voltage Rating (DC): 125V; Contact Gender: Male; Length: 7.8mm; Width: 0.157inch; Height: 8.8mm; Contact Mating Length: 0.177inch; Depth: 8.8mm; Radiation Hardening: No; Flammability Rating: UL94 V-0; RoHS Compliant: Yes; ELV: Compliant; Lead Free: Lead Free; REACH SVHC: No SVHC; ComponentLink1URL: http://www.farnell.com/datasheets/1828722.pdf?src-supplier=Farnell; ComponentLink1Description: http://www.farnell.com/datasheets/1828722.pdf?src-supplier=Farnell; ComponentLink2URL: http://www.te.com/commerce/DocumentDelivery/DDEController?Action=showdoc&DocId=Data+Sheet%7F1-1773455-8_CT_CONNECTOR_SERIES_QRG%7F0909%7Fpdf%7FEnglish%7FENG_DS_1-1773455-8_CT_CONNECTOR_SERIES_QRG_0909.pdf&src-supplier=Avnet+Europe; ComponentLink2Description: http://www.te.com/commerce/DocumentDelivery/DDEController?Action=showdoc&DocId=Data+Sheet%7F1-1773455-8_CT_CONNECTOR_SERIES_QRG%7F0909%7Fpdf%7FEnglish%7FENG_DS_1-1773455-8_CT_CONNECTOR_SERIES_QRG_0909.pdf&src-supplier=Avnet+Europe; ComponentLink3URL: http://www.te.com/commerce/DocumentDelivery/DDEController?Action=showdoc&DocId=Data+Sheet%7F1-1773455-8_CT_CONNECTOR_SERIES_QRG%7F0909%7Fpdf%7FEnglish%7FENG_DS_1-1773455-8_CT_CONNECTOR_SERIES_QRG_0909.pdf&src-supplier=Avnet+Asia; ComponentLink3Description: http://www.te.com/commerce/DocumentDelivery/DDEController?Action=showdoc&DocId=Data+Sheet%7F1-1773455-8_CT_CONNECTOR_SERIES_QRG%7F0909%7Fpdf%7FEnglish%7FENG_DS_1-1773455-8_CT_CONNECTOR_SERIES_QRG_0909.pdf&src-supplier=Avnet+Asia; ComponentLink4URL: http://www.onlinecomponents.com/productFiles/mf-AMP/basics292253-3_0.pdf?src-supplier=Onlinecomponents.com; ComponentLink4Description: http://www.onlinecomponents.com/productFiles/mf-AMP/basics292253-3_0.pdf?src-supplier=Onlinecomponents.com; ComponentLink5URL: https://www.alliedelec.com/m/d/b828f7336fbcfaaba46c8aec8fa2474c.pdf?src-supplier=Allied+Electronics; ComponentLink5Description: https://www.alliedelec.com/m/d/b828f7336fbcfaaba46c8aec8fa2474c.pdf?src-supplier=Allied+Electronics; ComponentLink6URL: https://www.te.com/commerce/DocumentDelivery/DDEController?Action=srchrtrv&DocNm=292253&DocType=Customer+Drawing&DocLang=English&src-supplier=Digi-Key; ComponentLink6Description: https://www.te.com/commerce/DocumentDelivery/DDEController?Action=srchrtrv&DocNm=292253&DocType=Customer+Drawing&DocLang=English&src-supplier=Digi-Key; Supplier 1: Farnell
footprint 3-pin connector
pins: 1 GND, 2 VCC, 3 SIG
text: Motor connector 3-pin

## 292253-3 (RC)
designator J?  Supplier Part Number 1: 1675774
Post Header Assembly, 3 Position, Horizontal, 2mm Pitch, DIP Standard Type; Manufacturer: TE Connectivity; Manufacturer Part Number: 292253-3; Shape: Rectangular; Number of Positions: 3; Connector Type: Header,Pin; Wire/Cable Type: Discrete; Backwall/Post Interruptions: No (Without); Connector System: Wire-to-Board; Mating Alignment: Yes (With); PCB Mount Retention: With; PCB Mounting Orientation: Right Angle; Contact Current Rating: 4A; Contact Resistance: 20mR; Max Voltage Rating (AC): 125V; Current Rating: 2A; Gender: Male; PCB Thickness: 0.8mm; Tail Length: 3.2mm; Wire/Cable Gauge: 22AWG; Approvals: UL; Mount: Through Hole; Contact Material: Brass; Contact Plating: Tin; Housing Color: Natural; Housing Material: Nylon; Color: Natural; Contact Shape: Round; Material: Nylon; Min Operating Temperature: -40°C; Max Operating Temperature: 105°C; Number of Rows: 1; Termination: Solder; Packaging: Bag; Package Quantity: 500; Number of Contacts: 3; Contact Retention: No (Without); Mating Retention: No (Without); PCB Mount Alignment: No (Without); Sealable: No (Without); Orientation: Right Angle; Series: AMP CT; Contact Type: Male Pin; Voltage Rating: 125V; Max Voltage Rating (DC): 125V; Contact Gender: Male; Length: 7.8mm; Width: 0.157inch; Height: 8.8mm; Pitch: 2mm; Contact Mating Length: 0.177inch; Depth: 8.8mm; Radiation Hardening: No; Flammability Rating: UL94 V-0; RoHS Compliant: Yes; ELV: Compliant; Lead Free: Lead Free; REACH SVHC: No SVHC; ComponentLink1URL: http://www.farnell.com/datasheets/1828722.pdf?src-supplier=Farnell; ComponentLink1Description: http://www.farnell.com/datasheets/1828722.pdf?src-supplier=Farnell; ComponentLink2URL: http://www.te.com/commerce/DocumentDelivery/DDEController?Action=showdoc&DocId=Data+Sheet%7F1-1773455-8_CT_CONNECTOR_SERIES_QRG%7F0909%7Fpdf%7FEnglish%7FENG_DS_1-1773455-8_CT_CONNECTOR_SERIES_QRG_0909.pdf&src-supplier=Avnet+Europe; ComponentLink2Description: http://www.te.com/commerce/DocumentDelivery/DDEController?Action=showdoc&DocId=Data+Sheet%7F1-1773455-8_CT_CONNECTOR_SERIES_QRG%7F0909%7Fpdf%7FEnglish%7FENG_DS_1-1773455-8_CT_CONNECTOR_SERIES_QRG_0909.pdf&src-supplier=Avnet+Europe; ComponentLink3URL: http://www.te.com/commerce/DocumentDelivery/DDEController?Action=showdoc&DocId=Data+Sheet%7F1-1773455-8_CT_CONNECTOR_SERIES_QRG%7F0909%7Fpdf%7FEnglish%7FENG_DS_1-1773455-8_CT_CONNECTOR_SERIES_QRG_0909.pdf&src-supplier=Avnet+Asia; ComponentLink3Description: http://www.te.com/commerce/DocumentDelivery/DDEController?Action=showdoc&DocId=Data+Sheet%7F1-1773455-8_CT_CONNECTOR_SERIES_QRG%7F0909%7Fpdf%7FEnglish%7FENG_DS_1-1773455-8_CT_CONNECTOR_SERIES_QRG_0909.pdf&src-supplier=Avnet+Asia; ComponentLink4URL: http://www.onlinecomponents.com/productFiles/mf-AMP/basics292253-3_0.pdf?src-supplier=Onlinecomponents.com; ComponentLink4Description: http://www.onlinecomponents.com/productFiles/mf-AMP/basics292253-3_0.pdf?src-supplier=Onlinecomponents.com; ComponentLink5URL: https://www.alliedelec.com/m/d/b828f7336fbcfaaba46c8aec8fa2474c.pdf?src-supplier=Allied+Electronics; ComponentLink5Description: https://www.alliedelec.com/m/d/b828f7336fbcfaaba46c8aec8fa2474c.pdf?src-supplier=Allied+Electronics; ComponentLink6URL: https://www.te.com/commerce/DocumentDelivery/DDEController?Action=srchrtrv&DocNm=292253&DocType=Customer+Drawing&DocLang=English&src-supplier=Digi-Key; ComponentLink6Description: https://www.te.com/commerce/DocumentDelivery/DDEController?Action=srchrtrv&DocNm=292253&DocType=Customer+Drawing&DocLang=English&src-supplier=Digi-Key; Supplier 1: Farnell
footprint 3-pin connector
pins: 1 GND, 2 VCC, 3 SIG
text: RC channel connector 3-pin

## ABI-051-RC
designator LS?
Audio Indicator Buzzer Piezo 20V 15mA Pin Through Hole; Manufacturer: Multicomp; Manufacturer Part Number: ABI-051-RC; Supplier 1: Farnell; Stock 1: 0; Pricing 1: 1=1.74, 3=1.45, 5=1.31, 10=1.18, 20=1.11, 50=1.05, 250=1.02, 500=0.996 (EUR); Supplier Part Number 1: 2759905
pins: 1 +, 2 -
text: Piezo buzzer

## BM1422AGMV-ZE2
designator U?
Magnetic Sensor 1.7V to 3.6V SMD 10-Pin MLGA Emboss T/R; Manufacturer: Rohm; Manufacturer Part Number: BM1422AGMV-ZE2; Output Type: I2C; Sensing Method: Magnetoresistive; Axis: X, Y, Z; Max Supply Current: 300uA; Supplier 1: Farnell; Stock 1: 0; Pricing 1: 1=7.48, 10=5.03, 25=4.93, 50=4.83 (EUR); Case/Package: LGA; Number of Pins: 10; Min Operating Temperature: -40°C; Max Operating Temperature: 85°C; Packaging: Cut Tape; RoHS Compliant: Yes; ComponentLink1URL: https://www.rohm.com/datasheet/BM1422AGMV/bm1422agmv-e?src-supplier=Digi-Key; ComponentLink1Description: https://www.rohm.com/datasheet/BM1422AGMV/bm1422agmv-e?src-supplier=Digi-Key; ComponentLink2URL: http://www.farnell.com/datasheets/2630938.pdf?src-supplier=Farnell; ComponentLink2Description: http://www.farnell.com/datasheets/2630938.pdf?src-supplier=Farnell; ComponentLink3URL: http://www.farnell.com/datasheets/2630938.pdf?src-supplier=Newark; ComponentLink3Description: http://www.farnell.com/datasheets/2630938.pdf?src-supplier=Newark; Supplier Part Number 1: 2908647
footprint BM1422 (MLGA)
pins: 1 AVDD, 2 GND, 3 VREG, 4 TEST1, 5 SDA, 6 TEST2, 7 SCL, 8 DRDY, 9 ADDR, 10 DVDD
text: 3-dof magnetometer

## EVQ-Q2D03W
designator S?
SWITCH, SMD, 6.5X6X3.1MM, 0.5N; Manufacturer: Panasonic; Manufacturer Part Number: EVQ-Q2D03W; Mechanical Life: 2000000Cycles; Actuator Color: White; Current Rating: 20mA; Voltage Rating (DC): 15V; Voltage Rating (AC): 250V; Throw Configuration: SPST; Contact Resistance: 100mR; Illumination Type: Non-Illuminated,Illuminated; Switch Travel: 0.2mm; Switch Function: Off-Mom; Actuator Type: Standard; Actuator Length: 1.3mm; Body Depth: 6mm; Supplier 1: Farnell; Stock 1: 0; Pricing 1: 2000=0.191 (EUR); Mount: Surface Mount; Case/Package: SMD/SMT; Color: White; Contact Plating: Silver,Gold; Min Operating Temperature: -40°C; Max Operating Temperature: 85°C; Package Quantity: 1; Operating Force: 0.5N; Packaging: Tape and Reel; Max Current Rating: 20mA; Max Voltage Rating (DC): 15V; Contact Current Rating: 20mA; Termination: SMD/SMT; Electrical Life: 2000000Cycles; Orientation: Straight; Max Voltage Rating (AC): 250V; Series: EVQQ2; Length: 6mm; Height: 3.1mm; Depth: 6.6mm; Thickness: 1.8mm; Size: 1.8mm; Radiation Hardening: No; REACH SVHC: Unknown; Lead Free: Lead Free; ComponentLink1URL: http://www.farnell.com/datasheets/578646.pdf?src-supplier=Element14; ComponentLink1Description: http://www.farnell.com/datasheets/578646.pdf?src-supplier=Element14; ComponentLink2URL: http://www.farnell.com/datasheets/2244072.pdf?src-supplier=Farnell; ComponentLink2Description: http://www.farnell.com/datasheets/2244072.pdf?src-supplier=Farnell; ComponentLink3URL: http://uk.rs-online.com/webdocs/10ad/0900766b810ad242.pdf?src-supplier=RSComponents; ComponentLink3Description: http://uk.rs-online.com/webdocs/10ad/0900766b810ad242.pdf?src-supplier=RSComponents; ComponentLink4URL: http://industrial.panasonic.com/www-data/pdf/ATK0000/ATK0000CE28.pdf?src-supplier=Avnet; ComponentLink4Description: http://industrial.panasonic.com/www-data/pdf/ATK0000/ATK0000CE28.pdf?src-supplier=Avnet; ComponentLink5URL: https://industrial.panasonic.com/cdbs/www-data/pdf/ATK0000/ATK0000CE28.pdf?src-supplier=Digi-Key; ComponentLink5Description: https://industrial.panasonic.com/cdbs/www-data/pdf/ATK0000/ATK0000CE28.pdf?src-supplier=Digi-Key; ComponentLink6URL: https://industrial.panasonic.com/ac/cdn/e/control/switch/light-touch/catalog/sw_lt_eng_6s_th.pdf?src-supplier=Digi-Key; ComponentLink6Description: https://industrial.panasonic.com/ac/cdn/e/control/switch/light-touch/catalog/sw_lt_eng_6s_th.pdf?src-supplier=Digi-Key; Supplier Part Number 1: 2459497
footprint button
pins: 1 A, 2 B, 3 A', 4 B'